# Altium footprint library SN54LS14-SP.PcbLib: 1 footprints
Each footprint in its own frame and in the unit in brackets; x right, y up, seen from the top. Pads: shape width x height; smd on the part's side, far side on the other; paste and mask are expansions set on the pad; w line width, h text height; cw(c..) or ccw(c..) is an arc to the next point about the centre after c.
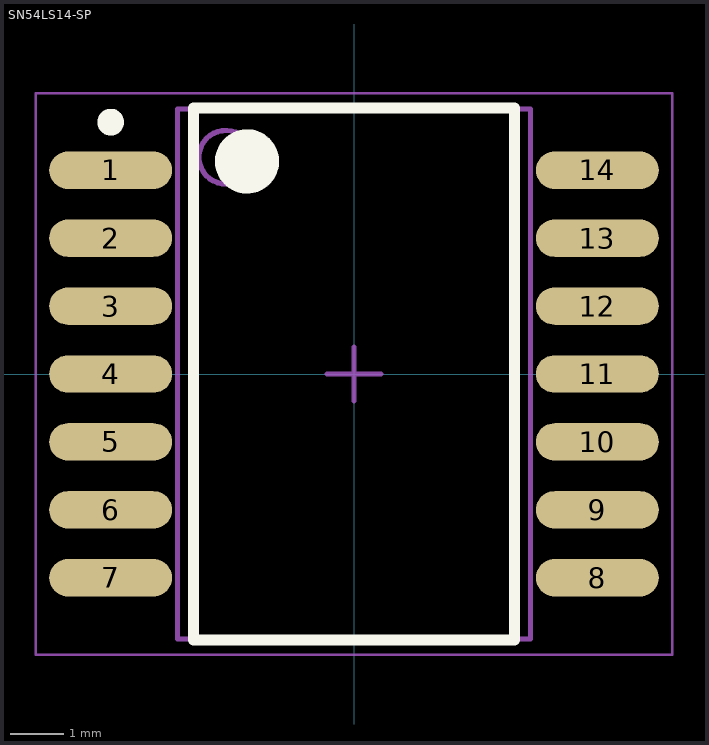
[diagram p0: the footprint, top view; thin cyan lines are the x and y axes]

## SN54LS14-SP [mm] "CFP, 14-Leads, Body 9.91x6.60mm (max), Pitch 1.27mm, IPC Medium Density"
height 2.03
pads (14):
  oval 2.3x0.7 smd: 1(-4.55,3.81) 2(-4.55,2.54) 3(-4.55,1.27) 4(-4.55,0) 5(-4.55,-1.27) 6(-4.55,-2.54) 7(-4.55,-3.81) 8(4.55,-3.81) 9(4.55,-2.54) 10(4.55,-1.27) 11(4.55,0) 12(4.55,1.27) 13(4.55,2.54) 14(4.55,3.81)
Top Overlay:
  circle w0.25: c-4.55,4.71 r0.125
  circle w0.6: c-2,3.975 r0.3
  lines w0.2: -3,-4.975 3,-4.975 3,4.975 -3,4.975 -3,-4.975
Mechanical 13:
  circle w0.1: c-2.4,4.055 r0.5
  lines w0.1: -3.3,-4.955 3.3,-4.955 3.3,4.955 -3.3,4.955 -3.3,-4.955
Mechanical 15:
  lines w0.05: -5.95,-5.25 5.95,-5.25 5.95,5.25 -5.95,5.25 -5.95,-5.25
  lines w0.1: -0.5,0 0.5,0 ; 0,-0.5 0,0.5
3D body: height 2.03, standoff 0, extent -3.3,-4.955 3.3,4.955